# Altium schematic symbol library Antenna.SchLib: 2 symbols
Pins are listed as number, name and electrical type; pins without a type are passive.

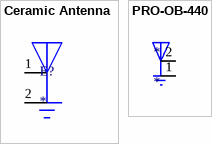
[diagram p0: symbols Ceramic Antenna to PRO-OB-440]

## Ceramic Antenna
designator E?
footprint Ceramic_915M
footprint Ceramic_2.4
footprint Ceramic_868M_CPA; pin to pad 2>none
pins: 1, 2

## PRO-OB-440
designator *
footprint PRO-OB-440
pins: 1 GND (power), 2 FEED